# EAGLE library part IC_MCP4131 (library dp_devices)
7/8 Bit SPI Digital POT with volatile memory MCP4131 <http://www.microchip.com/wwwproducts/Devices.aspx?dDocName=en531882>
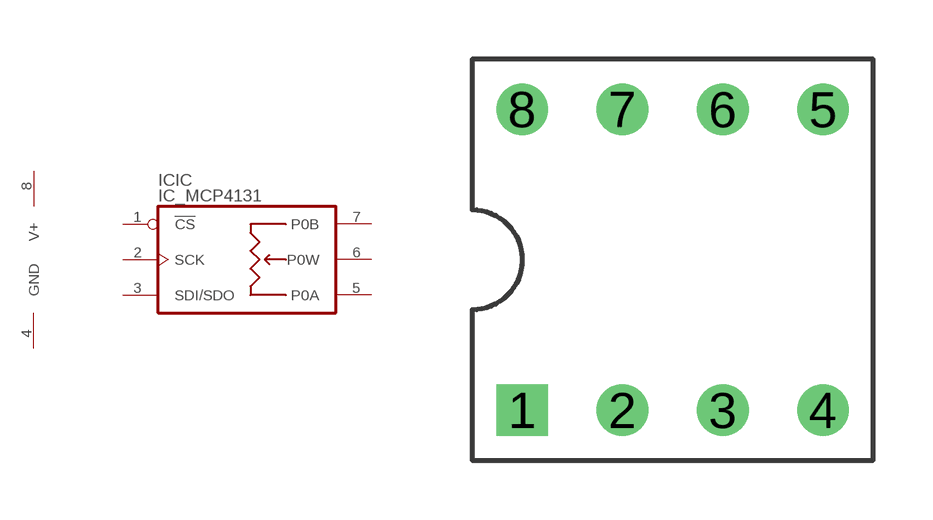
[diagram p135: symbol with the pads of DIP8; footprint DIP8]

Designator prefix IC; gates IC=MCP4131 SUP=SUPPLY

## IC_MCP4131  [DIP8]
1  IC:!CS  in
2  IC:SCK  in
3  IC:SDI/SDO
4  SUP:GND  sup
5  IC:P0A  pas
6  IC:P0W  pas
7  IC:P0B  pas
8  SUP:V+  sup

## Footprint DIP8 (pad centres in mm)
drill 0.8 square: 1 -3.81,-3.81
drill 0.8 round: 2 -1.27,-3.81; 3 1.27,-3.81; 4 3.81,-3.81; 5 3.81,3.81; 6 1.27,3.81; 7 -1.27,3.81; 8 -3.81,3.81